# Altium footprint library 3x7segmentlcd.PcbLib: 1 footprints
Each footprint in its own frame and in the unit in brackets; x right, y up, seen from the top. Pads: shape width x height; smd on the part's side, far side on the other; paste and mask are expansions set on the pad; w line width, h text height; cw(c..) or ccw(c..) is an arc to the next point about the centre after c.
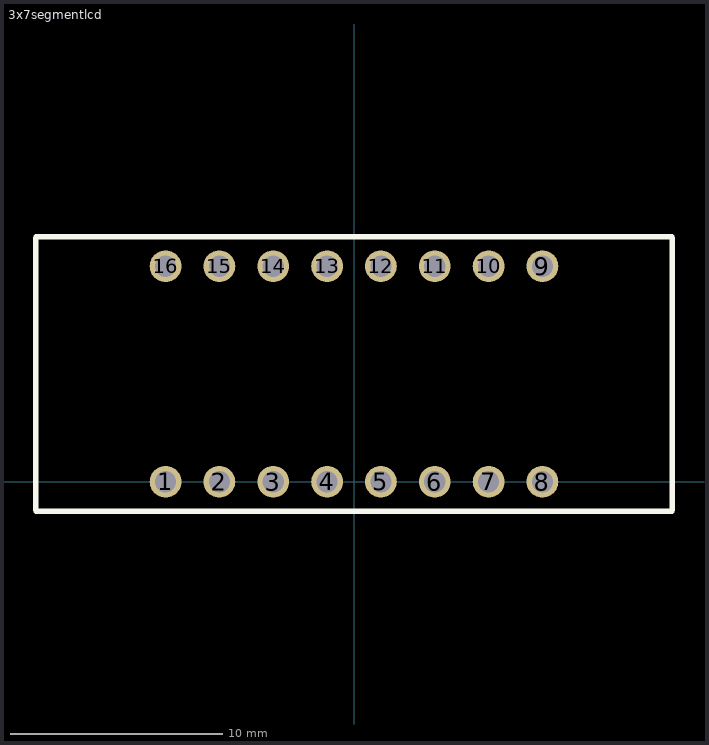
[diagram p0: the footprint, top view; thin cyan lines are the x and y axes]

## 3x7segmentlcd [mm] "Digikey PN: 160-1545-5-ND"
height 7
pads (16):
  round 1.5 hole 1: 1(-8.89,0) 2(-6.35,0) 3(-3.81,0) 4(-1.27,0) 5(1.27,0) 6(3.81,0) 7(6.35,0) 8(8.89,0) 9(8.89,10.16) 10(6.35,10.16) 11(3.81,10.16) 12(1.27,10.16) 13(-1.27,10.16) 14(-3.81,10.16) 15(-6.35,10.16) 16(-8.89,10.16)
Top Overlay:
  lines w0.254: -15.01,-1.32 -15.01,11.48 ; -14.986,-1.397 14.986,-1.397 ; -14.986,11.557 14.986,11.557 ; 15.01,-1.32 15.01,11.48